# Altium footprint library UFQFPN-20.PcbLib: 1 footprints
Each footprint in its own frame and in the unit in brackets; x right, y up, seen from the top. Pads: shape width x height; smd on the part's side, far side on the other; paste and mask are expansions set on the pad; w line width, h text height; cw(c..) or ccw(c..) is an arc to the next point about the centre after c.
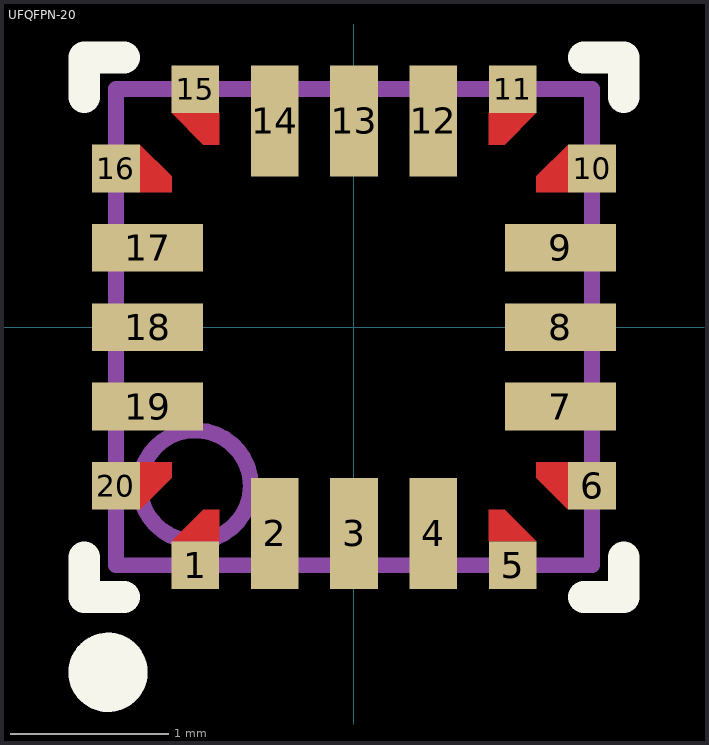
[diagram p0: the footprint, top view; thin cyan lines are the x and y axes]

## UFQFPN-20 [mm]
pads (20):
  rect 0.3x0.3 smd paste+0 mask-0.15: 1(-1,-1.5) 5(1,-1.5) 6(1.5,-1) 10(1.5,1) 11(1,1.5) 15(-1,1.5) 16(-1.5,1) 20(-1.5,-1)
  rect 0.3x0.7 smd paste+0 mask+0.051: 2(-0.5,-1.3) 3(0,-1.3) 4(0.5,-1.3) 12(0.5,1.3) 13(0,1.3) 14(-0.5,1.3)
  rect 0.7x0.3 smd paste+0 mask+0.051: 7(1.3,-0.5) 8(1.3,0) 9(1.3,0.5) 17(-1.3,0.5) 18(-1.3,0) 19(-1.3,-0.5)
Top Layer:
  region: -1.15,-0.85 -1.35,-0.85 -1.35,-1.15 -1.15,-0.95
  region: -0.85,1.15 -0.85,1.35 -1.15,1.35 -0.95,1.15
  region: 1.15,0.85 1.35,0.85 1.35,1.15 1.15,0.95
  region: 0.85,-1.15 0.85,-1.35 1.15,-1.35 0.95,-1.15
  region: 0.85,1.15 0.85,1.35 1.15,1.35 0.95,1.15
  region: 1.15,-0.85 1.35,-0.85 1.35,-1.15 1.15,-0.95
  region: -0.85,-1.15 -0.85,-1.35 -1.15,-1.35 -0.95,-1.15
  region: -1.15,0.85 -1.35,0.85 -1.35,1.15 -1.15,0.95
Top Overlay:
  circle w0.25: c-1.55,-2.175 r0.125
  lines w0.2: -1.7,-1.45 -1.7,-1.7 -1.45,-1.7 ; -1.7,1.45 -1.7,1.7 -1.45,1.7 ; 1.45,-1.7 1.7,-1.7 1.7,-1.45 ; 1.45,1.7 1.7,1.7 1.7,1.45
Top Paste:
  region: -0.85,-1.15 -0.85,-1.35 -1.15,-1.35 -0.95,-1.15
  region: 1.15,-0.85 1.35,-0.85 1.35,-1.15 1.15,-0.95
  region: 0.85,1.15 0.85,1.35 1.15,1.35 0.95,1.15
  region: 0.85,-1.15 0.85,-1.35 1.15,-1.35 0.95,-1.15
  region: -0.85,1.15 -0.85,1.35 -1.15,1.35 -0.95,1.15
  region: -1.15,-0.85 -1.35,-0.85 -1.35,-1.15 -1.15,-0.95
  region: -1.15,0.85 -1.35,0.85 -1.35,1.15 -1.15,0.95
  region: 1.15,0.85 1.35,0.85 1.35,1.15 1.15,0.95
Top Solder:
  region: 1.325,1.21 1.71,1.21 1.71,0.79 1.09,0.79 1.09,0.975
  region: -1.325,1.21 -1.71,1.21 -1.71,0.79 -1.09,0.79 -1.09,0.975
  region: -1.325,-1.21 -1.71,-1.21 -1.71,-0.79 -1.09,-0.79 -1.09,-0.975
  region: 1.21,1.325 1.21,1.71 0.79,1.71 0.79,1.09 0.975,1.09
  region: 1.325,-1.21 1.71,-1.21 1.71,-0.79 1.09,-0.79 1.09,-0.975
  region: -1.21,1.325 -1.21,1.71 -0.79,1.71 -0.79,1.09 -0.975,1.09
  region: 1.21,-1.325 1.21,-1.71 0.79,-1.71 0.79,-1.09 0.975,-1.09
  region: -1.21,-1.325 -1.21,-1.71 -0.79,-1.71 -0.79,-1.09 -0.975,-1.09
Mechanical 13:
  circle w0.1: c-1,-1 r0.35
  lines w0.1: -1.5,-1.5 1.5,-1.5 1.5,1.5 -1.5,1.5 -1.5,-1.5
3D body: height 0.6, standoff 0, extent -1.55,-1.55 1.55,1.55